# Altium schematic symbol library 1-Wire.SchLib: 8 symbols
Pins are listed as number, name and electrical type; pins without a type are passive.

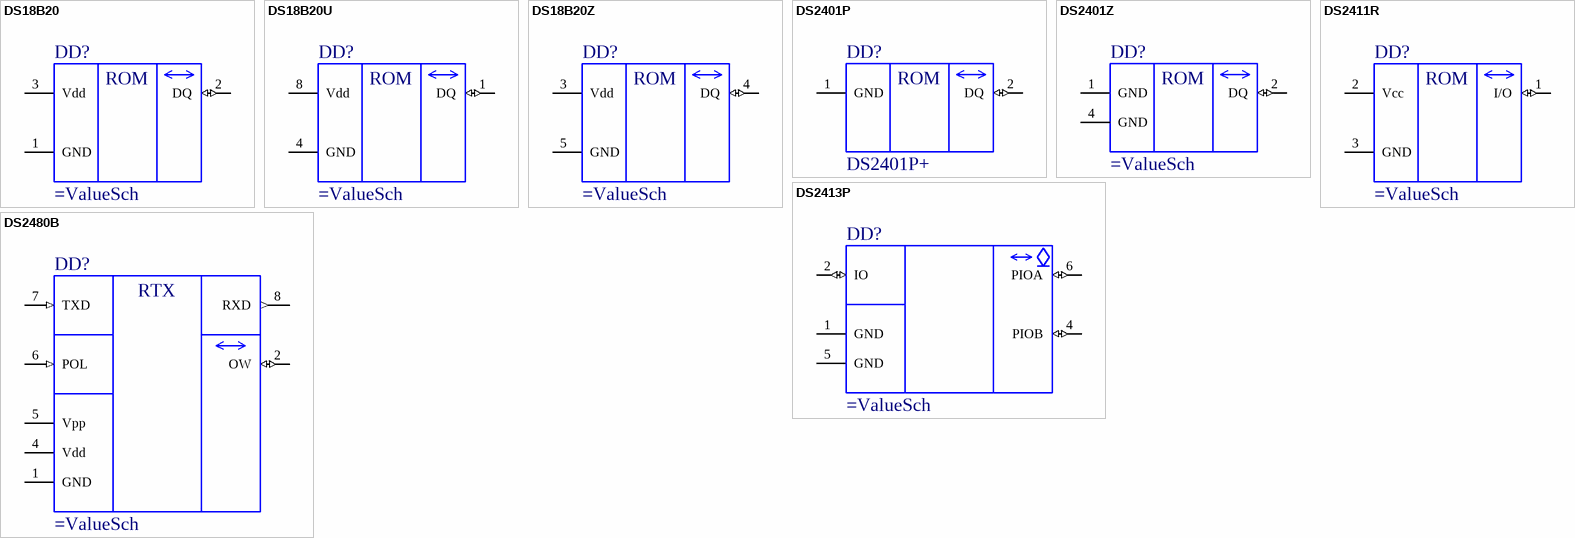
[diagram p0: symbols DS18B20 to DS2480B]

## DS18B20
designator DD?
Silicon Serial Number with Digital Termometr
pins: 1 GND (power), 2 DQ (io) "Data input/output", 3 Vdd (power) "Vcc"
text: ROM

## DS18B20U
designator DD?
Silicon Serial Number with Digital Termometr
pins: 1 DQ (io) "Data input/output", 4 GND (power), 8 Vdd (power) "Vcc"
text: ROM

## DS18B20Z
designator DD?
Silicon Serial Number with Digital Termometr
pins: 3 Vdd (power) "Vcc", 4 DQ (io) "Data input/output", 5 GND (power)
text: ROM

## DS2401P
designator DD?, comment DS2401P+
Silicon Serial Number; ValueSch: DS2401P+
pins: 1 GND (power), 2 DQ (io) "Data input/output", 3 NC hidden "No connect"
text: ROM

## DS2401Z
designator DD?
Silicon Serial Number
pins: 1 GND (power), 2 DQ (io) "Data input/output", 3 NC hidden "No connect", 4 GND (power)
text: ROM

## DS2411R
designator DD?
Silicon Serial Number with Vcc Input
pins: 1 I/O (io) "Data input/output", 2 Vcc (power), 3 GND (power)
text: ROM

## DS2413P
designator DD?
One Wire Duble Switch
pins: 1 GND (power), 2 IO (io), 3 NC hidden, 4 PIOB (io), 5 GND (power), 6 PIOA (io)

## DS2480B
designator DD?
UART to 1-Wire Driver; =ValueSch: DS2480B+
pins: 1 GND (power), 2 OW (io), 3 NC hidden, 4 Vdd (power), 5 Vpp (power), 6 POL (in), 7 TXD (in), 8 RXD (out)
text: RTX